# Altium footprint library FUSC3215X83N.PcbLib: 1 footprints
Each footprint in its own frame and in the unit in brackets; x right, y up, seen from the top. Pads: shape width x height; smd on the part's side, far side on the other; paste and mask are expansions set on the pad; w line width, h text height; cw(c..) or ccw(c..) is an arc to the next point about the centre after c.
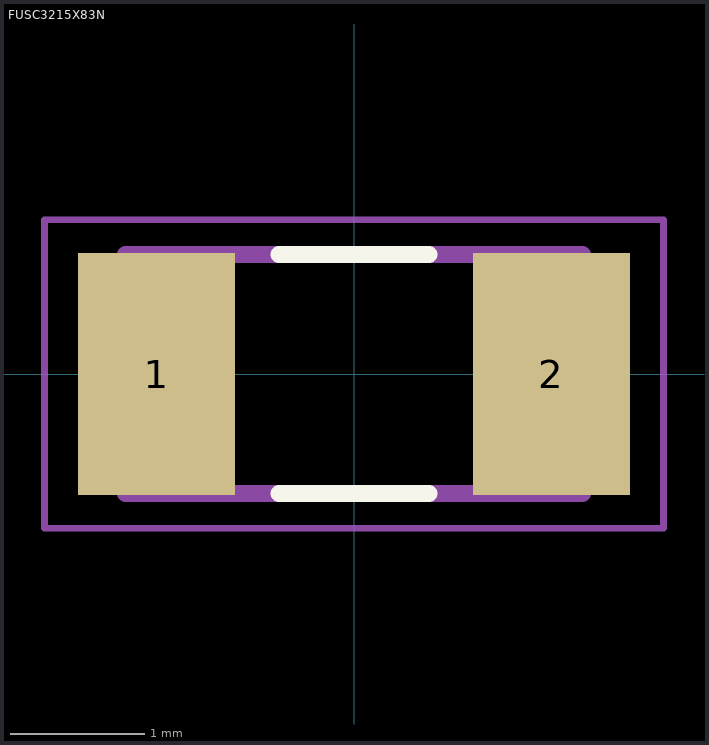
[diagram p0: the footprint, top view; thin cyan lines are the x and y axes]

## FUSC3215X83N [mm]
pads (2):
  rect 1.17x1.8 smd: 1(-1.47,0) 2(1.47,0)
Top Overlay:
  lines w0.127: -0.56,-0.89 0.56,-0.89 ; -0.56,0.89 0.56,0.89
Mechanical 13:
  lines w0.127: -1.7,-0.89 1.7,-0.89 1.7,0.89 -1.7,0.89 -1.7,-0.89
Mechanical 15:
  lines w0.05: -2.305,-1.15 2.305,-1.15 2.305,1.15 -2.305,1.15 -2.305,-1.15
3D body "step_temp.STEP": height 0.83, standoff 0, extent -1.6,-0.79 1.6,0.79